# EAGLE library part WE-DS_244617113 (library wurth_elektronik_passive_rev16d)
WE-DS D-SUB-Filter Connectors Bent 90° Characteristics Standard type filtered with 1000 pF High attenuation of more than 40 dB @ 180 MHz Low size: 6.3 mm Rated voltage: 125 VDC Rated current @ 20 ºC: 5 A Withstand voltage: 250 VRMS Insulation resistance: min. 1000 MΩ Operating temperature: –55 ºC to +125 ºC Applications Filtering of interfaces External connection to -printer -sensor -display <http://katalog.we-online.de/media/thumbs2/eisos/thb_AbsDSubFilter_SMD_pf2.jpg> Details see: http://katalog.we-online.de/en/pbs/D-SUB-Filter Bent 90° <http://katalog.we-online.de/en/pbs/Filter_SMD?sid=29b915c42a> Created on 2015-05-04 2015 (C) Wurth Elektronik
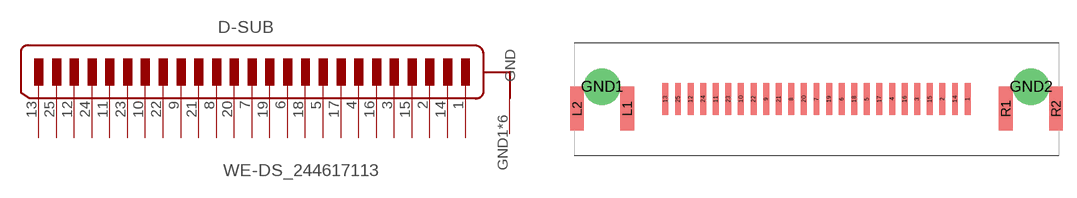
[diagram p209: symbol with the pads of WE-DS_244617113; footprint WE-DS_244617113]

Designator prefix D-SUB

## WE-DS_244617113  [WE-DS_244617113]
1  13
2  12
3  11
4  10
5  9
6  8
7  7
8  6
9  5
10  4
11  3
12  2
13  1
14  25
15  24
16  23
17  22
18  21
19  20
20  19
21  18
22  17
23  16
24  15
25  14
GND1  GND
GND2  GND
L1  GND
L2  GND
R1  GND
R2  GND

## Footprint WE-DS_244617113 (pad centres in mm)
smd 0.65 x 3.5: 1 16.56,0; 2 13.8,0; 3 11.04,0; 4 8.28,0; 5 5.52,0; 6 2.76,0; 7 0,0; 8 -2.76,0; 9 -5.52,0; 10 -8.28,0; 11 -11.04,0; 12 -13.8,0; 13 -16.56,0; 14 15.18,0; 15 12.42,0; 16 9.66,0; 17 6.9,0; 18 4.14,0; 19 1.38,0; 20 -1.38,0; 21 -4.14,0; 22 -6.9,0; 23 -9.66,0; 24 -12.42,0; 25 -15.18,0
drill 3: GND1 -23.5,1.35; GND2 23.5,1.35
smd 1.5 x 4.8: L1 -20.75,-1.05; L2 -26.25,-1.05; R1 20.75,-1.05; R2 26.25,-1.05